# EAGLE library part CY8C9520A (library Orlando)
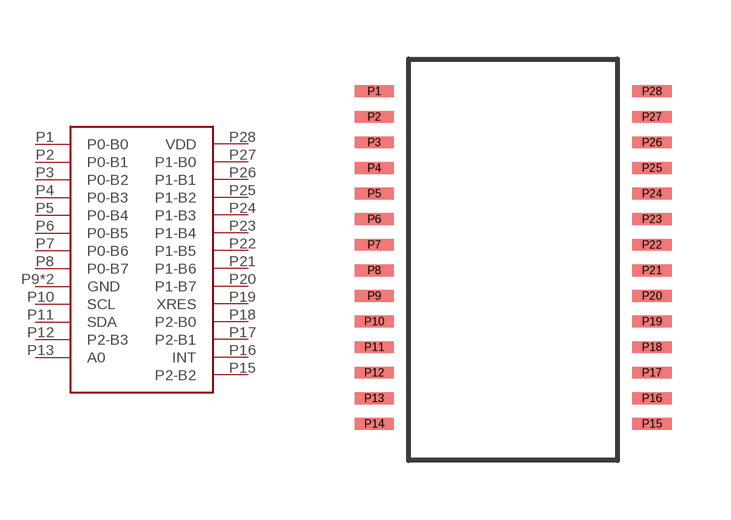
[diagram p17: symbol with the pads of 28-PIN-SSOP-210-MILS; footprint 28-PIN-SSOP-210-MILS]

Designator prefix -

## CY8C9520A  [28-PIN-SSOP-210-MILS]
P1  P0-B0
P2  P0-B1
P3  P0-B2
P4  P0-B3
P5  P0-B4
P6  P0-B5
P7  P0-B6
P8  P0-B7
P9  GND
P10  SCL
P11  SDA
P12  P2-B3
P13  A0
P14  GND
P15  P2-B2
P16  INT
P17  P2-B1
P18  P2-B0
P19  XRES
P20  P1-B7
P21  P1-B6
P22  P1-B5
P23  P1-B4
P24  P1-B3
P25  P1-B2
P26  P1-B1
P27  P1-B0
P28  VDD

## Footprint 28-PIN-SSOP-210-MILS (pad centres in mm)
smd 1 x 0.3: P1 -0.871,9.381; P2 -0.871,8.731; P3 -0.871,8.081; P4 -0.871,7.431; P5 -0.871,6.781; P6 -0.871,6.131; P7 -0.871,5.481; P8 -0.871,4.831; P9 -0.871,4.181; P10 -0.871,3.531; P11 -0.871,2.881; P12 -0.871,2.231; P13 -0.871,1.581; P14 -0.871,0.931; P15 6.179,0.931; P16 6.179,1.581; P17 6.179,2.231; P18 6.179,2.881; P19 6.179,3.531; P20 6.179,4.181; P21 6.179,4.831; P22 6.179,5.481; P23 6.179,6.131; P24 6.179,6.781; P25 6.179,7.431; P26 6.179,8.081; P27 6.179,8.731; P28 6.179,9.381